# EAGLE library part SCHA_SD_CARD (library ASP_SCHA_SD_CARD)
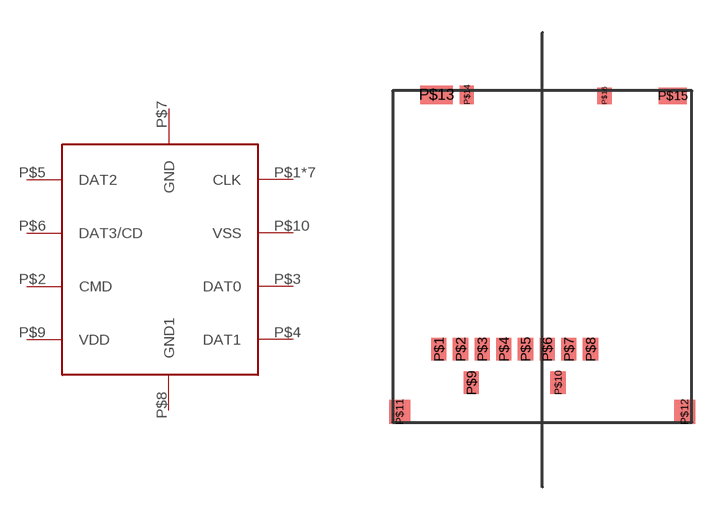
[diagram p0: symbol with the pads of SCHA_SD_CARD; footprint SCHA_SD_CARD]

Designator prefix -

## SCHA_SD_CARD  [SCHA_SD_CARD]
P$1  CLK
P$2  CMD
P$3  DAT0
P$4  DAT1
P$5  DAT2
P$6  DAT3/CD
P$7  GND
P$8  GND1
P$9  VDD
P$10  VSS
P$11  CLK
P$12  CLK
P$13  CLK
P$14  CLK
P$15  CLK
P$16  CLK

## Footprint SCHA_SD_CARD (pad centres in mm)
smd 0.7 x 1.05: P$1 -4.75,-4.4; P$2 -3.75,-4.4; P$3 -2.75,-4.4; P$4 -1.75,-4.4; P$5 -0.75,-4.4; P$6 0.25,-4.4; P$7 1.25,-4.4; P$8 2.25,-4.4; P$9 -3.25,-5.95; P$10 0.75,-5.95
smd 0.95 x 1.1: P$11 -6.55,-7.3; P$12 6.6,-7.3
smd 1.5 x 0.85: P$13 -4.85,7.35
smd 0.65 x 0.85: P$14 -3.45,7.35
smd 1.3 x 0.75: P$15 6.05,7.3
smd 0.65 x 0.75: P$16 2.9,7.3